# EAGLE library part ACS71X (library RoboJackets-ICs)
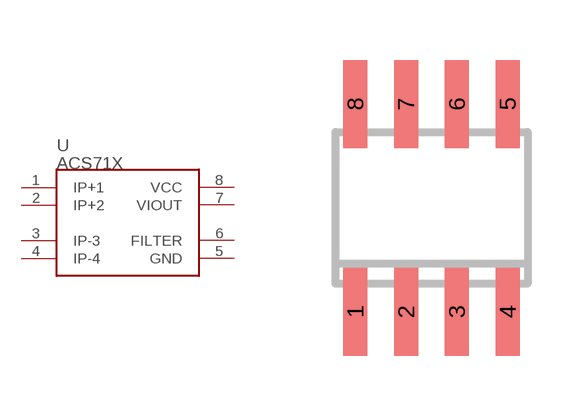
[diagram p1: symbol with the pads of SOIC-8; footprint SOIC-8]

Designator prefix U

## ACS71X  [SOIC-8]
1  IP+1
2  IP+2
3  IP-3
4  IP-4
5  GND
6  FILTER
7  VIOUT
8  VCC

## Footprint SOIC-8 (pad centres in mm)
SMALL OUTLINE INTEGRATED CIRCUIT body 3.9 mm/JEDEC MS-012AA
smd 0.6 x 2.2: 1 -1.905,-2.6; 2 -0.635,-2.6; 3 0.635,-2.6; 4 1.905,-2.6; 5 1.905,2.6; 6 0.635,2.6; 7 -0.635,2.6; 8 -1.905,2.6